# Altium schematic symbol library LDL1117S33R.SchLib: 2 symbols
Pins are listed as number, name and electrical type; pins without a type are passive.

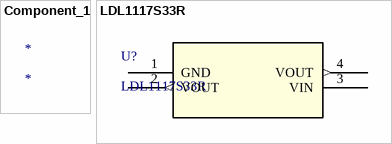
[diagram p0: symbols Component_1 to LDL1117S33R]

## Component_1
designator *

## LDL1117S33R
designator U?
No Description Available; Mfr_Name: STMicroelectronics; Copyright: Copyright (C) 2023 Ultra Librarian. All rights reserved.; Manufacturer_Part_Number: LDL1117S33R; Digi-Key_Part_Number_1: 497-17239-2-ND; Digi-Key_Part_Number_2: 497-17239-1-ND; Digi-Key_Part_Number_3: 497-17239-6-ND; RefDes: RefDes; Type: DEV
footprint SOT223_STM
pins: 1 GND, 2 VOUT (out), 3 VIN (power), 4 VOUT (out)